# Altium footprint library PcbLib1.PcbLib: 1 footprints
Each footprint in its own frame and in the unit in brackets; x right, y up, seen from the top. Pads: shape width x height; smd on the part's side, far side on the other; paste and mask are expansions set on the pad; w line width, h text height; cw(c..) or ccw(c..) is an arc to the next point about the centre after c.
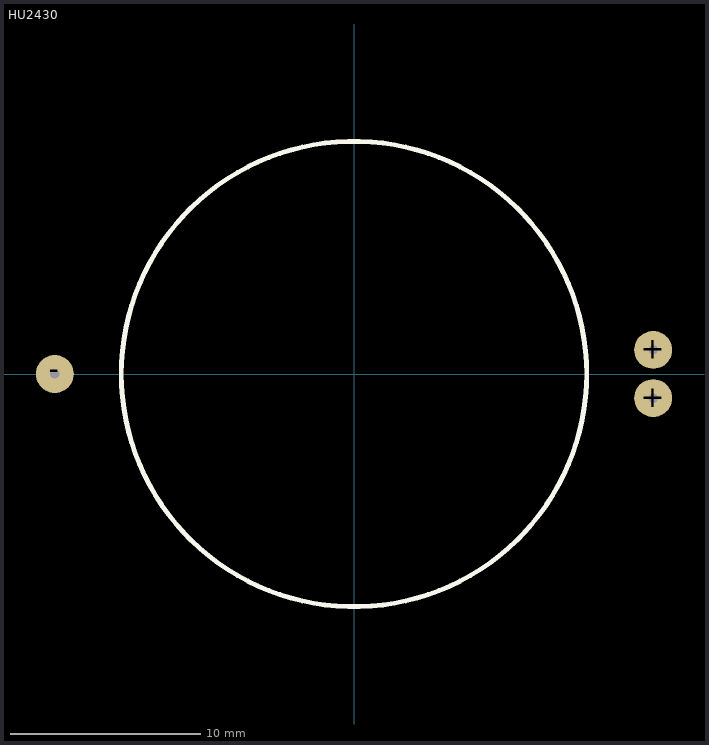
[diagram p0: the footprint, top view; thin cyan lines are the x and y axes]

## HU2430 [mm]
height 4.7
pads (3):
  round 2 hole 0.5: +(15.75,-1.27) +(15.75,1.27) -(-15.75,0)
Top Overlay:
  circle w0.254: c0,0 r12.25
3D body: height 5, standoff 0, extent -11.905,-11.976 12,11.976